# Altium schematic symbol library ESP32 components.SchLib: 8 symbols
Pins are listed as number, name and electrical type; pins without a type are passive.

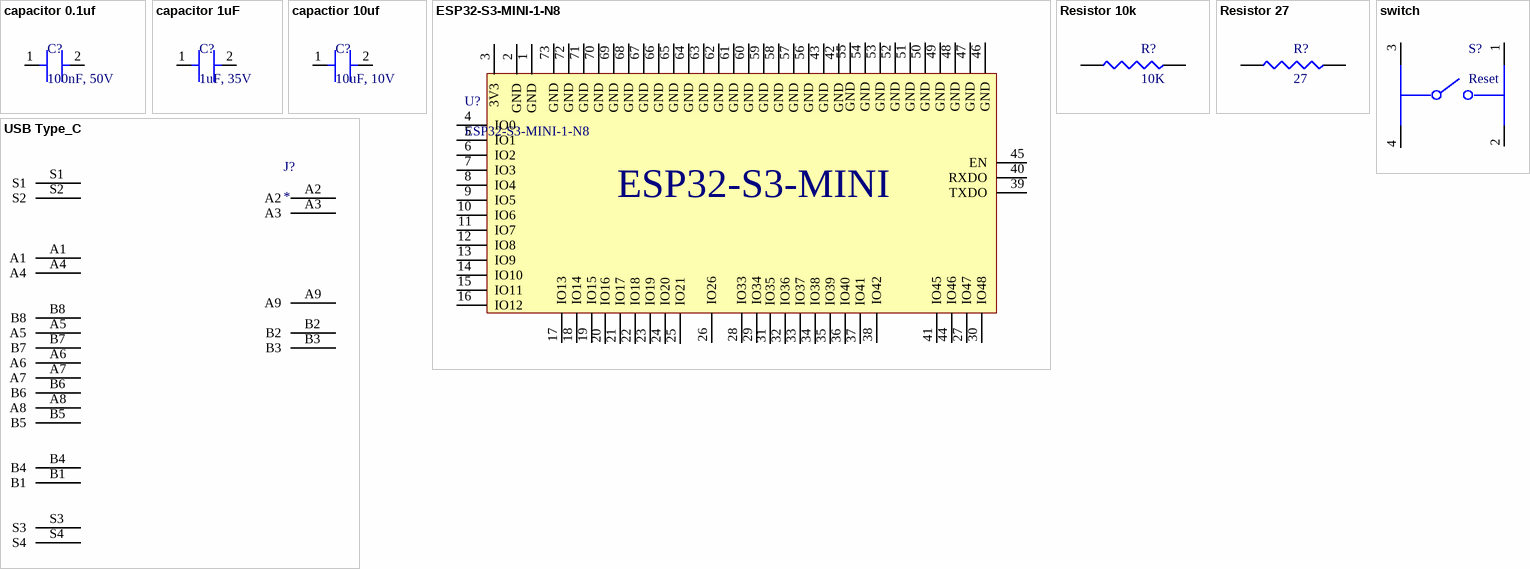
[diagram p0: symbols capacitor 0.1uf to USB Type_C]

## capacitor 0.1uf
designator C?, comment 100nF, 50V
50V 100nF X7R ±10% 0402 Multilayer Ceramic Capacitors MLCC - SMD/SMT ROHS; Manfacture  part number: CL05B104KB54PNC; Manfacturer: Samsung Electro-Mechanics; Supplier: LCSC; Supplier part number: C307331; stock: 2024
pins: 1, 2

## capacitor 1uF
designator C?, comment 1uF, 35V
35V 1uF X5R ±10% 0402 Multilayer Ceramic Capacitors MLCC - SMD/SMT ROHS; Manfacture part number: CL05A105KL5NRNC; Manfacturer: Samsung Electro-Mechanics; Supplier: LCSC; Supplier part number: C307413; stock: 2024
pins: 1, 2

## capactior 10uf
designator C?, comment 10uF, 10V
10V 10uF X5R ±20% 0402 Multilayer Ceramic Capacitors MLCC - SMD/SMT ROHS; Supllier part number: C307415; Manfacture  part number: CL05A106MP8NUB8; Supllier: LCSC; Manfacturer: Samsung Electro-Mechanics; stock: 2024
pins: 1, 2

## ESP32-S3-MINI-1-N8
designator U?
SMD Module ESP32; Manfacturer: Espressif Systems; Supplier: LCSC; Supplier part number: C2913206; Manfacture part number: ESP32-S3-MINI-1-N8; Stock: 2024
pins: 1 GND, 2 GND, 3 3V3, 4 IO0, 5 IO1, 6 IO2, 7 IO3, 8 IO4, 9 IO5, 10 IO6, 11 IO7, 12 IO8, 13 IO9, 14 IO10, 15 IO11, 16 IO12, 17 IO13, 18 IO14, 19 IO15, 20 IO16, 21 IO17, 22 IO18, 23 IO19, 24 IO20, 25 IO21, 26 IO26, 27 IO47, 28 IO33, 29 IO34, 30 IO48, 31 IO35, 32 IO36, 33 IO37, 34 IO38, 35 IO39, 36 IO40, 37 IO41, 38 IO42, 39 TXDO, 40 RXDO, 41 IO45, 42 GND, 43 GND, 44 IO46, 45 EN, 46 GND, 47 GND, 48 GND, 49 GND, 50 GND, 51 GND, 52 GND, 53 GND, 54 GND, 55 GND, 56 GND, 57 GND, 58 GND, 59 GND, 60 GND, 61 GND, 62 GND, 63 GND, 64 GND, 65 GND, 66 GND, 67 GND, 68 GND, 69 GND, 70 GND, 71 GND, 72 GND, 73 GND
text: ESP32-S3-MINI

## Resistor 10k
designator R?, comment 10K
62.5mW Thick Film Resistors 50V ±100ppm/℃ ±1% 10kΩ 0402 Chip Resistor - Surface Mount ROHS; Manfacturer part number: AC0402FR-0710KL; Manfacturer: YAGEO; Supplier: LCSC; Supplier part number: C144807; stock: 2024
pins: 1, 2

## Resistor 27
designator R?, comment 27
62.5mW Thick Film Resistors 50V ±100ppm/℃ ±1% 27Ω 0402 Chip Resistor - Surface Mount ROHS; Manufacturer: YAGEO; Manufacturer part number: RC0402FR-0727RL; Supplier: LCSC; Supplier part number: C138021; stock: 2024
pins: 1, 2

## switch
designator S?, comment Reset
Round Button 50mA Standing paste SPST - normally open 160gf 12V SMD,6x6mm Tactile Switches ROHS; Manfacturer part number: PTS645SM43JSMTR92 LFS; Manfacturer: C&K; Supplier: LCSC; Supplier part number: C2801847; stock: 2024
pins: 1, 2, 3, 4

## USB Type_C
designator J?
Manfacturer part number: 2171790001; Manfacturer: MOLEX; Supplier: LCSC; Supplier part number: C3197684
pins: A1, A2, A3, A4, A5, A6, A7, A8, A9, B1, B2, B3, B4, B5, B6, B7, B8, S1, S2, S3, S4